# Altium footprint library V_18.PcbLib: 4 footprints
Each footprint in its own frame and in the unit in brackets; x right, y up, seen from the top. Pads: shape width x height; smd on the part's side, far side on the other; paste and mask are expansions set on the pad; w line width, h text height; cw(c..) or ccw(c..) is an arc to the next point about the centre after c.
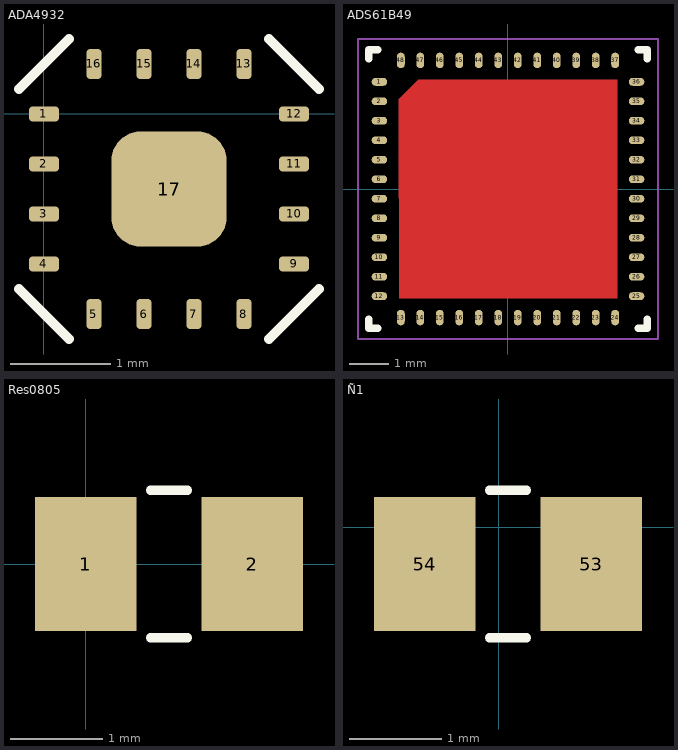
[diagram p0: the footprints below, top view; thin cyan lines are the x and y axes]

## ADA4932 [mm]
pads (17):
  rrect50% 0.3x0.15 smd: 1(0,0) 2(0,-0.5) 3(0,-1) 4(0,-1.5) 9(2.5,-1.5) 10(2.5,-1) 11(2.5,-0.5) 12(2.5,0)
  rrect50% 0.15x0.3 smd: 5(0.5,-2) 6(1,-2) 7(1.5,-2) 8(2,-2) 13(2,0.5) 14(1.5,0.5) 15(1,0.5) 16(0.5,0.5)
  rrect50% 1.15x1.15 smd: 17(1.25,-0.75)
Top Overlay:
  lines w0.1: -0.25,-1.75 0.25,-2.25 ; -0.25,0.25 0.25,0.75 ; 2.25,-2.25 2.75,-1.75 ; 2.25,0.75 2.75,0.25

## ADS61B49 [mm]
pads (48):
  oval 0.4x0.2 smd: 1(-3.3,2.75) 2(-3.3,2.25) 3(-3.3,1.75) 4(-3.3,1.25) 5(-3.3,0.75) 6(-3.3,0.25) 7(-3.3,-0.25) 8(-3.3,-0.75) 9(-3.3,-1.25) 10(-3.3,-1.75) 11(-3.3,-2.25) 12(-3.3,-2.75) 25(3.3,-2.75) 26(3.3,-2.25) 27(3.3,-1.75) 28(3.3,-1.25) 29(3.3,-0.75) 30(3.3,-0.25) 31(3.3,0.25) 32(3.3,0.75) 33(3.3,1.25) 34(3.3,1.75) 35(3.3,2.25) 36(3.3,2.75)
  oval 0.2x0.4 smd: 13(-2.75,-3.3) 14(-2.25,-3.3) 15(-1.75,-3.3) 16(-1.25,-3.3) 17(-0.75,-3.3) 18(-0.25,-3.3) 19(0.25,-3.3) 20(0.75,-3.3) 21(1.25,-3.3) 22(1.75,-3.3) 23(2.25,-3.3) 24(2.75,-3.3) 37(2.75,3.3) 38(2.25,3.3) 39(1.75,3.3) 40(1.25,3.3) 41(0.75,3.3) 42(0.25,3.3) 43(-0.25,3.3) 44(-0.75,3.3) 45(-1.25,3.3) 46(-1.75,3.3) 47(-2.25,3.3) 48(-2.75,3.3)
Top Layer:
  region: -2.796,-2.805 -2.801,2.3 -2.304,2.799 2.804,2.801 2.81,-2.8
Top Overlay:
  lines w0.2: -3.575,-3.35 -3.575,-3.575 -3.35,-3.575 ; -3.575,3.35 -3.575,3.575 -3.35,3.575 ; 3.35,-3.575 3.575,-3.575 3.575,-3.35 ; 3.35,3.575 3.575,3.575 3.575,3.35
Mechanical 15:
  lines w0.05: -3.85,-3.85 3.85,-3.85 3.85,3.85 -3.85,3.85 -3.85,-3.85

## Res0805 [mm]
pads (2):
  rect 1.1x1.45 smd: 1(0,0) 2(1.8,0)
Top Overlay:
  lines w0.1: 0.7,-0.8 1.1,-0.8 ; 0.7,0.8 1.1,0.8

## Ñ1 [mm]
pads (2):
  rect 1.1x1.45 smd: 53(1,-0.4) 54(-0.8,-0.4)
Top Overlay:
  lines w0.1: -0.1,-1.2 0.3,-1.2 ; -0.1,0.4 0.3,0.4